# EAGLE library part H1102NL (library misc)
MODULE XFRMR SGL ETHR LAN 16SOIC
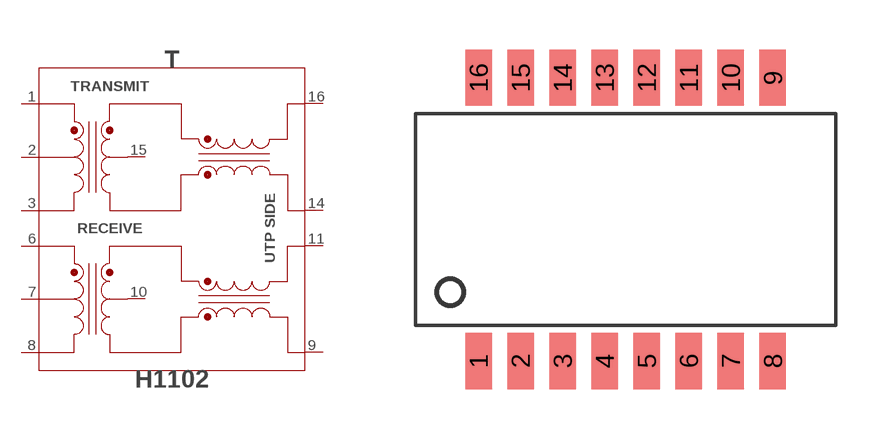
[diagram p14: symbol with the pads of H1102; footprint H1102]

Designator prefix T

## H1102NL (DIGIKEY#: 553-1203-ND; MANF: Pulse Electronics Corporation; MANF#: H1102)  [H1102]
1  1
2  2
3  3
6  6
7  7
8  8
9  9
10  10
11  11
14  14
15  15
16  16

## Footprint H1102 (pad centres in mm)
smd 0.8 x 1.7: 1 -4.445,-4.28; 2 -3.175,-4.28; 3 -1.905,-4.28; 4 -0.635,-4.28; 5 0.635,-4.28; 6 1.905,-4.28; 7 3.175,-4.28; 8 4.445,-4.28; 9 4.445,4.28; 10 3.175,4.28; 11 1.905,4.28; 12 0.635,4.28; 13 -0.635,4.28; 14 -1.905,4.28; 15 -3.175,4.28; 16 -4.445,4.28